# EAGLE library part TB67H451FNG (library pimoroni-ics)
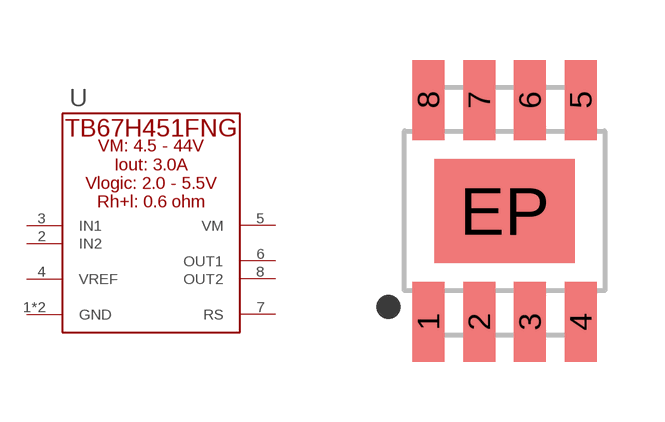
[diagram p163: symbol with the pads of SO_POWERPAD_8; footprint SO_POWERPAD_8]

Designator prefix U

## TB67H451FNG  [SO_POWERPAD_8]
1  GND
2  IN2
3  IN1
4  VREF
5  VM
6  OUT1
7  RS
8  OUT2
EP  GND

## Footprint SO_POWERPAD_8 (pad centres in mm)
smd 0.8 x 2: 1 -1.905,-2.775; 2 -0.635,-2.775; 3 0.635,-2.775; 4 1.905,-2.775; 5 1.905,2.775; 6 0.635,2.775; 7 -0.635,2.775; 8 -1.905,2.775
smd 3.5 x 2.6: EP 0,0